# Altium schematic symbol library SCH_LIB_FUENTE.SchLib: 10 symbols
Pins are listed as number, name and electrical type; pins without a type are passive.

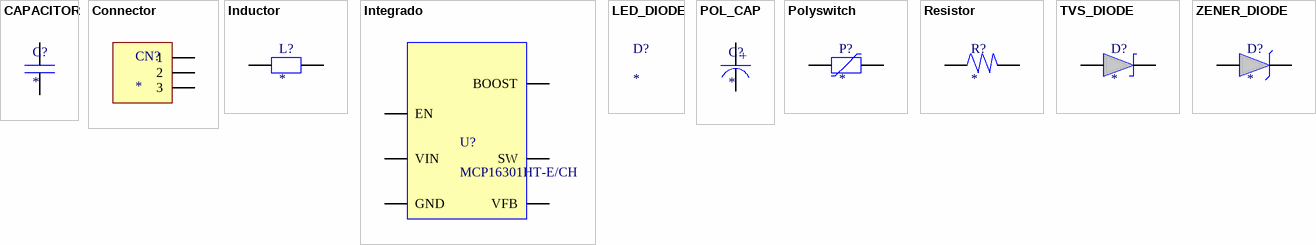
[diagram p0: symbols CAPACITOR to ZENER_DIODE]

## CAPACITOR
designator C?
Capacitor AF
pins: 38, 39

## Connector
designator CN?
pins: 42 1, 43 2, 44 3

## Inductor
designator L?
Inductor
pins: 45, 46

## Integrado
designator U?, comment MCP16301HT-E/CH
Driver Switching
pins: 49 EN, 50 VIN, 51 GND, 52 SW, 53 BOOST, 54 VFB

## LED_DIODE
designator D?
LED rojo 0805

## POL_CAP
designator C?
Capacitor polarizado
pins: 36, 37
text: +

## Polyswitch
designator P?
Polyswitch
pins: 40, 41

## Resistor
designator R?
pins: 47, 48

## TVS_DIODE
designator D?
pins: 34, 35

## ZENER_DIODE
designator D?
pins: 32, 33